# EAGLE library part SN74LS32N (library my_devices)
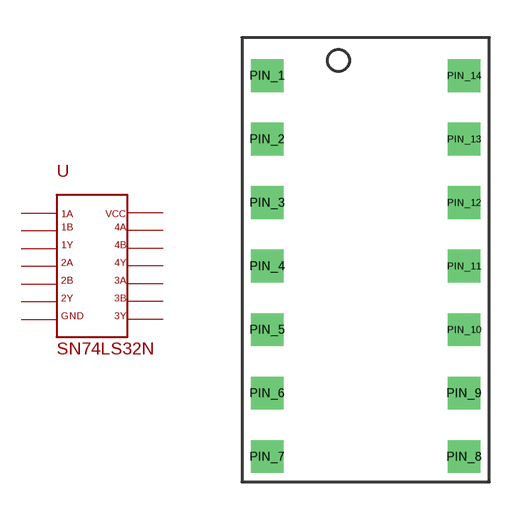
[diagram p7: symbol with the pads of DIP14; footprint DIP14]

Designator prefix U

## SN74LS32N  [DIP14]
PIN_1  1A  in
PIN_2  1B  in
PIN_3  1Y  out
PIN_4  2A  in
PIN_5  2B  in
PIN_6  2Y  out
PIN_7  GND  pwr
PIN_8  3Y  out
PIN_9  3B  in
PIN_10  3A  in
PIN_11  4Y  out
PIN_12  4B  in
PIN_13  4A  in
PIN_14  VCC  pwr

## Footprint DIP14 (pad centres in mm)
drill 0.8 square: PIN_1 -4.064,7.62; PIN_2 -4.064,5.08; PIN_3 -4.064,2.54; PIN_4 -4.064,0; PIN_5 -4.064,-2.54; PIN_6 -4.064,-5.08; PIN_7 -4.064,-7.62; PIN_8 3.81,-7.62; PIN_9 3.81,-5.08; PIN_10 3.81,-2.54; PIN_11 3.81,0; PIN_12 3.81,2.54; PIN_13 3.81,5.08; PIN_14 3.81,7.62